# Altium footprint library Acoustics.PcbLib: 18 footprints (part 1 of 2)
Each footprint in its own frame and in the unit in brackets; x right, y up, seen from the top. Pads: shape width x height; smd on the part's side, far side on the other; paste and mask are expansions set on the pad; w line width, h text height; cw(c..) or ccw(c..) is an arc to the next point about the centre after c.
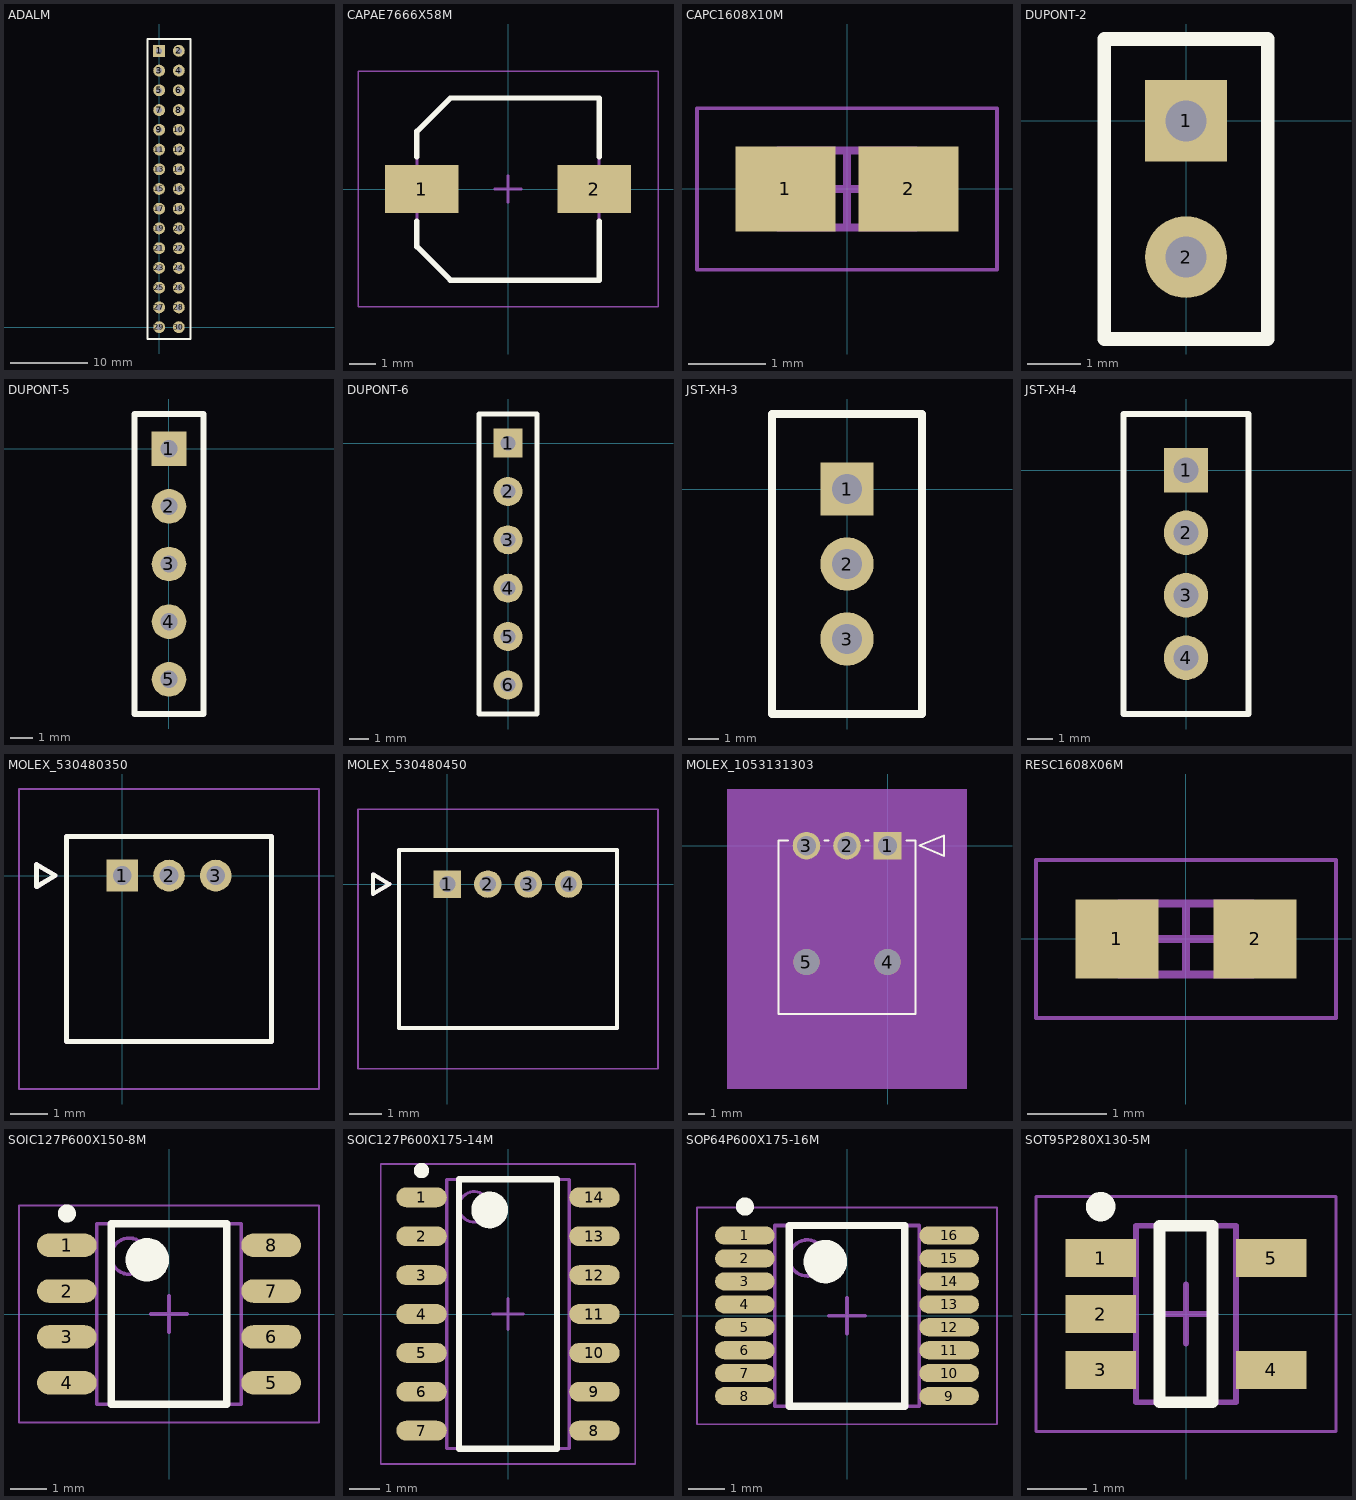
[diagram p0: the footprints below, top view; thin cyan lines are the x and y axes]

## ADALM [mil]
pads (30):
  rect 60x60 hole 30: 1(0,1400)
  round 60 hole 30: 2(100,1400) 3(0,1300) 4(100,1300) 5(0,1200) 6(100,1200) 7(0,1100) 8(100,1100) 9(0,1000) 10(100,1000) 11(0,900) 12(100,900) 13(0,800) 14(100,800) 15(0,700) 16(100,700) 17(0,600) 18(100,600) 19(0,500) 20(100,500) 21(0,400) 22(100,400) 23(0,300) 24(100,300) 25(0,200) 26(100,200) 27(0,100) 28(100,100) 29(0,0) 30(100,0)
Top Overlay:
  lines w10: -60,-60 160,-60 160,1460 -60,1460 -60,-60

## CAPAE7666X58M [mm] "Aluminum Electrolytic Capacitor, Body 6.60x6.60x5.80mm, IPC Low Density"
height 5.8
pads (2):
  rect 2.75x1.8 smd: 1(-3.225,0) 2(3.225,0)
Top Overlay:
  lines w0.2: -3.4,-1.2 -3.4,-2.15 -2.15,-3.4 3.4,-3.4 3.4,-1.2 ; -3.4,1.2 -3.4,2.15 -2.15,3.4 3.4,3.4 3.4,1.2
Mechanical 13:
  lines w0.1: -3.4,-2.15 -2.15,-3.4 3.4,-3.4 3.4,3.4 -2.15,3.4 -3.4,2.15 -3.4,-2.15
Mechanical 15:
  lines w0.05: -5.6,-4.4 -5.6,4.4 5.6,4.4 5.6,-4.4 -5.6,-4.4
  lines w0.1: -0.5,0 0.5,0 ; 0,-0.5 0,0.5
3D body "CAPAE7666X58M.step": height 5.8, standoff -0.5, extent -3.8,-3.4 3.8,3.4

## CAPC1608X10M [mm] "Chip Capacitor, 2-Leads, Body 1.60x0.80mm, IPC Low Density"
height 1
pads (2):
  rect 1.3x1.1 smd: 1(-0.8,0) 2(0.8,0)
Mechanical 13:
  lines w0.1: -0.9,-0.5 -0.9,0.5 0.9,0.5 0.9,-0.5 -0.9,-0.5
Mechanical 15:
  lines w0.05: -1.95,-1.05 -1.95,1.05 1.95,1.05 1.95,-1.05 -1.95,-1.05
  lines w0.1: -0.5,0 0.5,0 ; 0,-0.5 0,0.5
3D body "CAPC1608X10M.step": height 1, standoff 0, extent -0.9,-0.5 0.9,0.5

## DUPONT-2 [mil]
pads (2):
  rect 60x60 hole 30: 1(0,0)
  round 60 hole 30: 2(0,-100)
Top Overlay:
  lines w10: -60,-160 60,-160 60,60 -60,60 -60,-160

## DUPONT-5 [mil]
pads (5):
  rect 60x60 hole 30: 1(0,0)
  round 60 hole 30: 2(0,-100) 3(0,-200) 4(0,-300) 5(0,-400)
Top Overlay:
  lines w10: -60,-460 60,-460 60,60 -60,60 -60,-460

## DUPONT-6 [mil]
pads (6):
  rect 60x60 hole 30: 1(0,0)
  round 60 hole 30: 2(0,-100) 3(0,-200) 4(0,-300) 5(0,-400) 6(0,-500)
Top Overlay:
  lines w10: -60,-560 60,-560 60,60 -60,60 -60,-560

## JST-XH-3 [mil]
pads (3):
  rect 70x70 hole 40: 1(0,0)
  round 70 hole 40: 2(0,-98.43) 3(0,-196.85)
Top Overlay:
  lines w10: -98.43,-295.28 98.43,-295.28 98.43,98.43 -98.43,98.43 -98.43,-295.28

## JST-XH-4 [mil]
pads (4):
  rect 70x70 hole 40: 1(0,0)
  round 70 hole 40: 2(0,-98.43) 3(0,-196.85) 4(0,-295.28)
Top Overlay:
  lines w10: -98.43,-383.86 98.43,-383.86 98.43,88.58 -98.43,88.58 -98.43,-383.86

## MOLEX_530480350 [mm]
height 3.5
pads (3):
  rect 0.85x0.85 / inner round 0.85 / far side rect 0.85x0.85 hole 0.5 mask+0.076: 1(0,0)
  round 0.85 hole 0.5 mask+0.076: 2(1.25,0) 3(2.5,0)
Top Overlay:
  lines w0.127: -2.3,-0.3 -2.3,0.3 -1.8,0 -2.3,-0.3 ; -1.5,-4.45 4,-4.45 4,1.05 -1.5,1.05 -1.5,-4.45
Mechanical 13:
  lines w0.127: -2.3,-0.3 -2.3,0.3 -1.8,0 -2.3,-0.3 ; -1.5,-4.45 4,-4.45 4,1.05 -1.5,1.05 -1.5,-4.45
Mechanical 15:
  lines w0.05: -2.77,-5.72 5.27,-5.72 5.27,2.32 -2.77,2.32 -2.77,-5.72

## MOLEX_530480450 [mm]
height 3.5
pads (4):
  rect 0.85x0.85 / inner round 0.85 / far side rect 0.85x0.85 hole 0.5 mask+0.076: 1(0,0)
  round 0.85 hole 0.5 mask+0.076: 2(1.25,0) 3(2.5,0) 4(3.75,0)
Top Overlay:
  lines w0.127: -2.3,-0.3 -2.3,0.3 -1.8,0 -2.3,-0.3 ; -1.5,-4.45 5.25,-4.45 5.25,1.05 -1.5,1.05 -1.5,-4.45
Mechanical 13:
  lines w0.127: -2.3,-0.3 -2.3,0.3 -1.8,0 -2.3,-0.3 ; -1.5,-4.45 5.25,-4.45 5.25,1.05 -1.5,1.05 -1.5,-4.45
Mechanical 15:
  lines w0.05: -2.77,-5.72 6.52,-5.72 6.52,2.32 -2.77,2.32 -2.77,-5.72

## MOLEX_1053131303 [mm]
pads (5):
  rect 1.7x1.7 hole 1.2 mask+0.076: 1(0,0)
  round 1.7 hole 1.2 mask+0.076: 2(-2.5,0) 3(-5,0)
  round 1.6 hole 1.6 unplated mask+0.076: 4(0,-7.18) 5(-5,-7.18)
Top Overlay:
  lines w0.127: -6.128,0.31 -6.72,0.31 -6.72,-10.38 1.72,-10.38 1.72,0.31 1.17,0.31 ; -3.872,0.31 -3.628,0.31 ; -1.372,0.31 -1.17,0.31 ; 1.974,0 3.498,0.635 3.498,-0.635 1.974,0
Mechanical 5:
  region: -9.895,3.495 4.895,3.495 4.895,-15.015 -9.895,-15.015
Mechanical 13:
  lines w0.127: -6.72,-11.84 1.72,-11.84 1.72,0.32 -6.72,0.32 -6.72,-11.84 ; 1.974,0 3.498,0.635 3.498,-0.635 1.974,0
Mechanical 15:
  region: 2.99,1.59 -7.99,1.59 -7.99,-13.11 2.99,-13.11
  lines w0.127: -7.99,-13.11 -7.99,1.59 2.99,1.59 2.99,-13.11 -7.99,-13.11
3D body: height 0.25, standoff 0, extent 0,0 0.254,0.254

## RESC1608X06M [mm] "Chip Resistor, 2-Leads, Body 1.60x0.80mm, IPC Low Density"
height 0.55
pads (2):
  rect 1.05x1 smd: 1(-0.875,0) 2(0.875,0)
Mechanical 13:
  lines w0.1: -0.85,-0.45 0.85,-0.45 0.85,0.45 -0.85,0.45 -0.85,-0.45
Mechanical 15:
  lines w0.05: -1.9,-1 1.9,-1 1.9,1 -1.9,1 -1.9,-1
  lines w0.1: -0.45,0 0.45,0 ; 0,-0.45 0,0.45
3D body "RESC1608X06M.step": height 0.55, standoff 0, extent -0.85,-0.45 0.85,0.45

## SOIC127P600X150-8M [mm] "SOIC, 8-Leads, Body 4.90x3.90mm, Pitch 1.27mm, IPC Low Density"
height 1.5
pads (8):
  oval 1.65x0.65 smd: 1(-2.825,1.905) 2(-2.825,0.635) 3(-2.825,-0.635) 4(-2.825,-1.905) 5(2.825,-1.905) 6(2.825,-0.635) 7(2.825,0.635) 8(2.825,1.905)
Top Overlay:
  circle w0.6: c-0.6,1.5 r0.3
  circle w0.25: c-2.825,2.78 r0.125
  lines w0.2: -1.6,-2.5 1.6,-2.5 1.6,2.5 -1.6,2.5 -1.6,-2.5
Mechanical 13:
  circle w0.1: c-1.1,1.6 r0.5
  lines w0.1: -2,-2.5 2,-2.5 2,2.5 -2,2.5 -2,-2.5
Mechanical 15:
  lines w0.05: -4.15,-3 4.15,-3 4.15,3 -4.15,3 -4.15,-3
  lines w0.1: -0.5,0 0.5,0 ; 0,-0.5 0,0.5
3D body "SOIC127P600X150-8M.step": height 1.5, standoff 0, extent -3,-2.5 3,2.5

## SOIC127P600X175-14M [mm] "SOIC, 14-Leads, Body 8.65x3.90mm, Pitch 1.27mm, IPC Low Density"
height 1.75
pads (14):
  oval 1.65x0.65 smd: 1(-2.825,3.81) 2(-2.825,2.54) 3(-2.825,1.27) 4(-2.825,0) 5(-2.825,-1.27) 6(-2.825,-2.54) 7(-2.825,-3.81) 8(2.825,-3.81) 9(2.825,-2.54) 10(2.825,-1.27) 11(2.825,0) 12(2.825,1.27) 13(2.825,2.54) 14(2.825,3.81)
Top Overlay:
  circle w0.25: c-2.825,4.685 r0.125
  circle w0.6: c-0.6,3.4 r0.3
  lines w0.2: -1.6,-4.4 -1.6,4.4 1.6,4.4 1.6,-4.4 -1.6,-4.4
Mechanical 13:
  circle w0.1: c-1.1,3.5 r0.5
  lines w0.1: -2,-4.4 -2,4.4 2,4.4 2,-4.4 -2,-4.4
Mechanical 15:
  lines w0.05: -4.15,-4.9 -4.15,4.9 4.15,4.9 4.15,-4.9 -4.15,-4.9
  lines w0.1: -0.5,0 0.5,0 ; 0,-0.5 0,0.5
3D body "SOIC127P600X175-14M.step": height 1.75, standoff 0, extent -3,-4.4 3,4.4

## SOP64P600X175-16M [mm] "SOP, 16-Leads, Body 4.89x3.90mm, Pitch 0.64mm, IPC Low Density"
height 1.75
pads (16):
  oval 1.65x0.5 smd: 1(-2.825,2.222) 2(-2.825,1.587) 3(-2.825,0.953) 4(-2.825,0.318) 5(-2.825,-0.318) 6(-2.825,-0.953) 7(-2.825,-1.587) 8(-2.825,-2.222) 9(2.825,-2.222) 10(2.825,-1.587) 11(2.825,-0.953) 12(2.825,-0.318) 13(2.825,0.318) 14(2.825,0.953) 15(2.825,1.587) 16(2.825,2.222)
Top Overlay:
  circle w0.25: c-2.825,3.023 r0.125
  circle w0.6: c-0.6,1.5 r0.3
  lines w0.2: -1.6,-2.5 -1.6,2.5 1.6,2.5 1.6,-2.5 -1.6,-2.5
Mechanical 13:
  circle w0.1: c-1.1,1.6 r0.5
  lines w0.1: -2,-2.5 -2,2.5 2,2.5 2,-2.5 -2,-2.5
Mechanical 15:
  lines w0.05: -4.15,-3 -4.15,3 4.15,3 4.15,-3 -4.15,-3
  lines w0.1: -0.5,0 0.5,0 ; 0,-0.5 0,0.5
3D body "SOP64P600X175-16M.step": height 1.75, standoff 0, extent -3.004,-2.5 3.004,2.5

## SOT95P280X130-5M [mm] "SOT23, 5-Leads, Body 2.90x2.80mm, Pitch 0.95mm, IPC Low Density"
height 1.3
pads (5):
  rect 1.2x0.65 smd: 1(-1.45,0.95) 2(-1.45,0) 3(-1.45,-0.95) 4(1.45,-0.95) 5(1.45,0.95)
Top Overlay:
  circle w0.25: c-1.45,1.825 r0.125
  lines w0.2: -0.45,-1.5 0.45,-1.5 0.45,1.5 -0.45,1.5 -0.45,-1.5
Mechanical 13:
  lines w0.1: -0.85,-1.5 -0.85,1.5 0.85,1.5 0.85,-1.5 -0.85,-1.5
Mechanical 15:
  lines w0.05: -2.55,-2 -2.55,2 2.55,2 2.55,-2 -2.55,-2
  lines w0.1: -0.5,0 0.5,0 ; 0,-0.5 0,0.5
3D body "SOT95P280X130-5M.step": height 1.3, standoff 0, extent -1.5,-1.5 1.5,1.5